# EAGLE library part LM4780 (library Simplex-ICs)
TI LM4780 Overture Power Amplifier
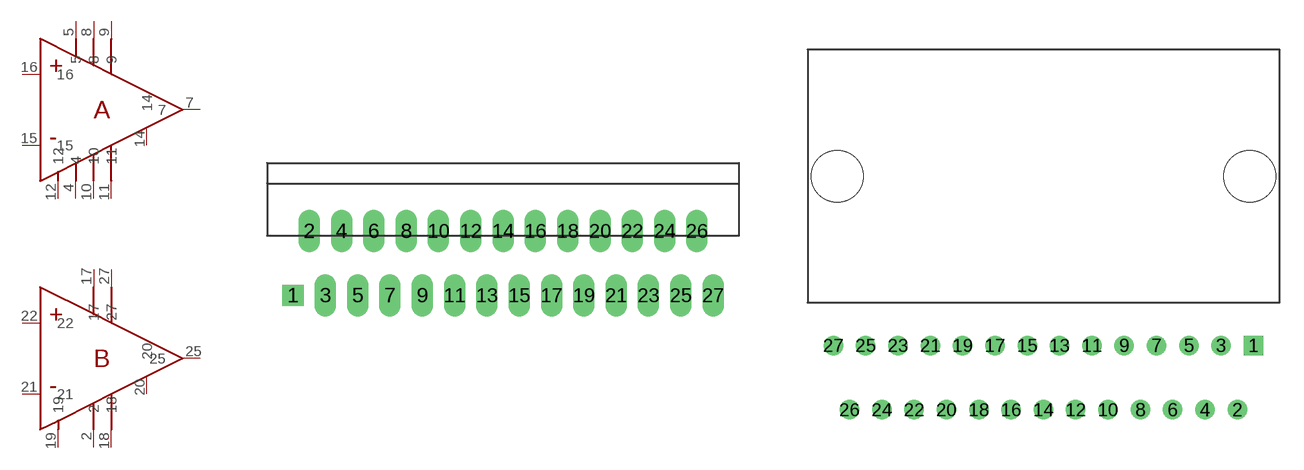
[diagram p11: symbol with the pads of TO220-27_VERT; footprints TO220-27_VERT, TO220-27_HOR]

Designator prefix -; gates G$1=LM4780-A G$2=LM4780-B

## LM4780_V  [TO220-27_VERT]
2  G$2:2  pwr
4  G$1:4  pwr
5  G$1:5  pwr
7  G$1:7  out
8  G$1:8  pwr
9  G$1:9  pwr
10  G$1:10  pwr
11  G$1:11  pwr
12  G$1:12  pwr
14  G$1:14
15  G$1:15  in
16  G$1:16  in
17  G$2:17  pwr
18  G$2:18  pwr
19  G$2:19  pwr
20  G$2:20
21  G$2:21  in
22  G$2:22  in
25  G$2:25  out
27  G$2:27  pwr

## LM4780_H  [TO220-27_HOR]
Pads as for TO220-27_VERT

## Footprint TO220-27_VERT (pad centres in mm)
TI LM4780 vertical
drill 0.813 pad 1.27 square: 1 0,0
drill 0.813 pad 1.27 long: 2 1.001,3.988; 3 2.002,0; 4 3.002,3.988; 5 4.003,0; 6 5.004,3.988; 7 6.005,0; 8 7.005,3.988; 9 8.006,0; 10 9.007,3.988; 11 10.008,0; 12 11.008,3.988; 13 12.009,0; 14 13.01,3.988; 15 14.011,0; 16 15.011,3.988; 17 16.012,0; 18 17.013,3.988; 19 18.014,0; 20 19.014,3.988; 21 20.015,0; 22 21.016,3.988; 23 22.017,0; 24 23.017,3.988; 25 24.018,0; 26 25.019,3.988; 27 26.02,0

## Footprint TO220-27_HOR (pad centres in mm)
TO220-27 mounted horizontally with the heatsink upwards
drill 0.7 square: 1 0,0
drill 0.7: 2 -1.001,-3.988; 3 -2.002,0; 4 -3.002,-3.988; 5 -4.003,0; 6 -5.004,-3.988; 7 -6.005,0; 8 -7.005,-3.988; 9 -8.006,0; 10 -9.007,-3.988; 11 -10.008,0; 12 -11.008,-3.988; 13 -12.009,0; 14 -13.01,-3.988; 15 -14.011,0; 16 -15.011,-3.988; 17 -16.012,0; 18 -17.013,-3.988; 19 -18.014,0; 20 -19.014,-3.988; 21 -20.015,0; 22 -21.016,-3.988; 23 -22.017,0; 24 -23.017,-3.988; 25 -24.018,0; 26 -25.019,-3.988; 27 -26.02,0
hole 3.2 at -25.781,10.49
hole 3.2 at -0.229,10.49